# Altium footprint library TIDA-00080_AMC13x6.PcbLib: 26 footprints (part 2 of 2)
Each footprint in its own frame and in the unit in brackets; x right, y up, seen from the top. Pads: shape width x height; smd on the part's side, far side on the other; paste and mask are expansions set on the pad; w line width, h text height; cw(c..) or ccw(c..) is an arc to the next point about the centre after c.
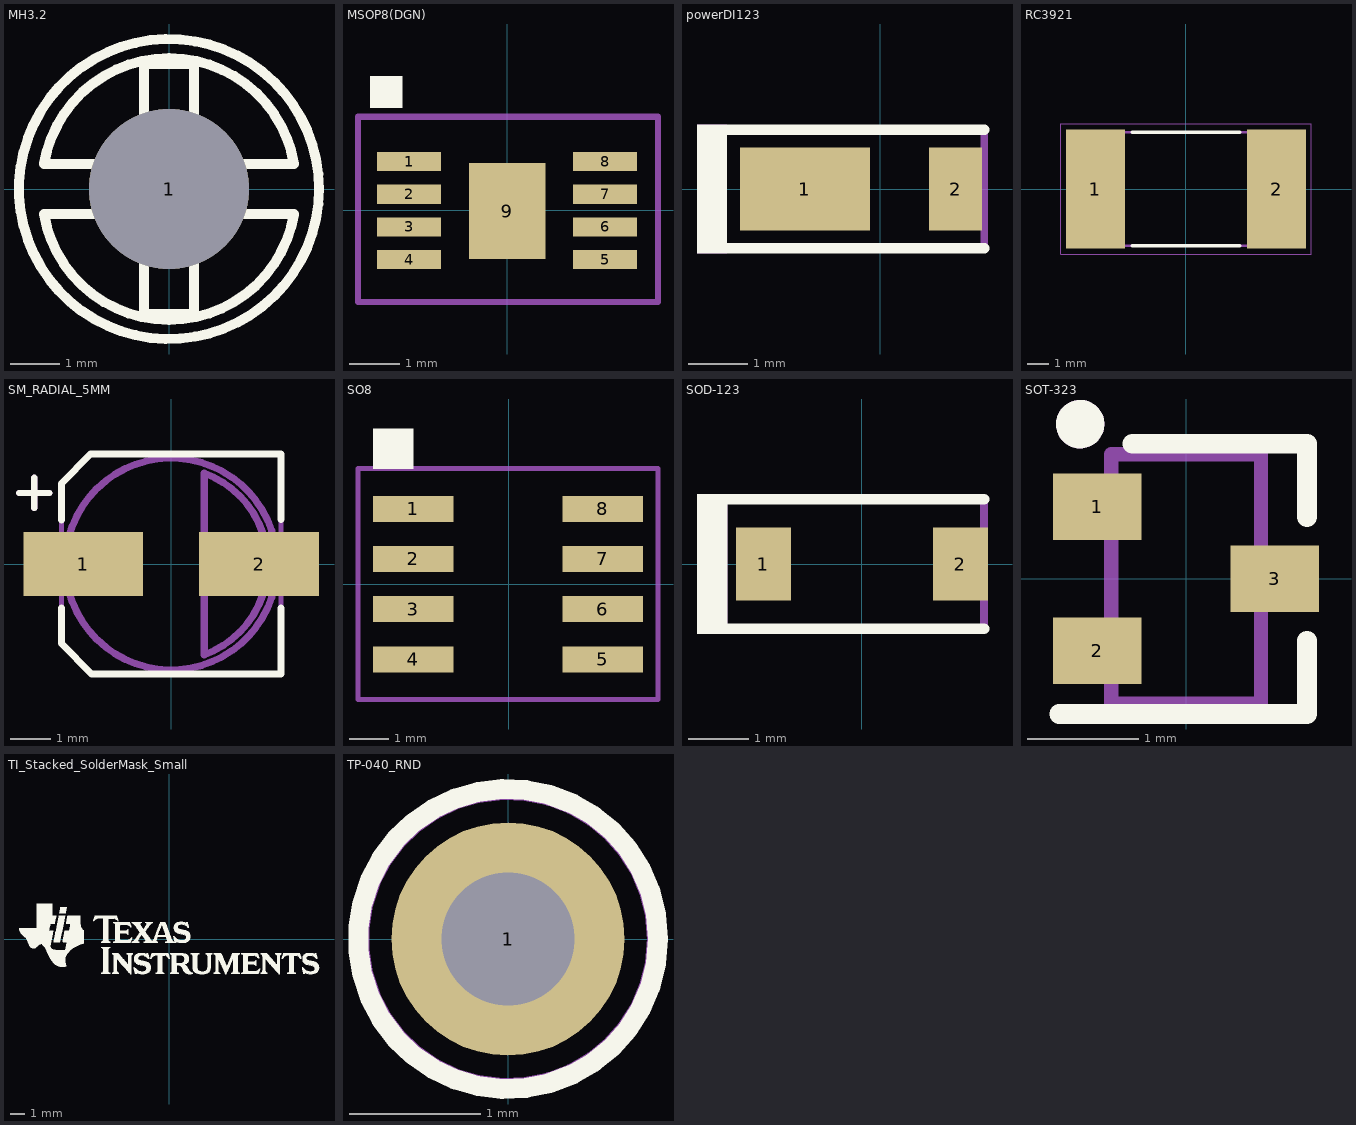
[diagram p1: the footprints below, top view; thin cyan lines are the x and y axes]

## MH3.2 [mil]
height 80
pads (1):
  round 128 / inner round 142 / far side round 128 hole 128 unplated mask+10: 1(0,0)
Top Overlay:
  circle w8: c0,0 r120
  lines w8: -100,-20 -20,-20 -20,-100 20,-100 20,-20 100,-20 ; -100.02,-19.91 ccw(c0,-3.35) 99.99,-20.08 ; -100,20 -20,20 -20,100 20,100 20,20 100,20 ; -99.99,20.09 cw(c0,3.36) 100.02,19.92

## MSOP8(DGN) [mil]
pads (9):
  rect 50x15 smd mask+3: 1(-77,38) 2(-77,12.4) 3(-77,-13.2) 4(-77,-38.8) 5(76.6,-38.8) 6(76.6,-13.2) 7(76.6,12.4) 8(76.6,38)
  rect 60x75 smd: 9(0,-0.8)
Top Overlay:
  region: -107.5,105 -82.5,105 -82.5,80 -107.5,80
Mechanical 5:
  lines w5: -117,-72 -117,73 118,73 118,-72 -117,-72
  text ".Designator" at 15,-20 h25
  text "*" at -105,30 h25

## powerDI123 [mm] "Diodes Inc recommended land pattern, document number DS30628 Rev. 6-2"
height 1
pads (2):
  rect 2.2x1.4 smd: 1(-1.275,0)
  rect 0.9x1.4 smd: 2(1.275,0)
Top Overlay:
  rectangle: -3.099,-1.092 -2.591,1.092
  lines w0.178: -2.946,-1.003 1.759,-1.003 ; -2.946,1.003 1.759,1.003
Mechanical 5:
  rectangle: -3.099,-1.092 -2.591,1.092
  lines w0.127: -2.946,-1.003 1.759,-1.003 1.759,1.003 -2.946,1.003
  text ".Designator" at -0.968,-0.366 h0.64
3D body "PowerDI123.stp": height 1, standoff 0, extent -2.375,-0.965 1.525,0.965

## RC3921 [mm] "RESISTOR, SMD, 3921"
height 0.93
pads (2):
  rect 2.7x5.45 smd mask+0.102: 1(-4.15,0) 2(4.15,0)
Top Overlay:
  lines w0.178: -2.45,-2.6 2.45,-2.6 ; -2.45,2.6 2.45,2.6
Mechanical 5:
  lines w0.127: -5,-2.6 -5,2.6 5,2.6 5,-2.6 -5,-2.6
  text ".Designator" at -0.66,-0.381 h0.64
Mechanical 15:
  lines w0.05: -5.75,-3 5.75,-3 5.75,3 -5.75,3 -5.75,-3
3D body: height 0.93, standoff 0, extent -5,-2.6 5,2.6

## SM_RADIAL_5MM [mm] "Nichicon 5x5.8"
height 6.1
pads (2):
  rect 3x1.6 smd: 1(-2.2,0) 2(2.2,0)
Top Overlay:
  lines w0.152: -3.81,1.778 -3.048,1.778 ; -3.429,1.397 -3.429,2.159
  lines w0.178: -2.75,-1.108 -2.75,-1.992 -1.992,-2.75 2.75,-2.75 2.75,-1.108 ; -2.75,1.108 -2.75,2.019 -2.019,2.75 2.75,2.75 2.75,1.118
Mechanical 5:
  lines w0.127: -2.75,-1.992 -2.75,2.019 -2.019,2.75 2.75,2.75 2.75,-2.75 -1.992,-2.75 -2.75,-1.992
  lines w0.152: -3.81,1.778 -3.048,1.778 ; -3.429,1.397 -3.429,2.159
  text ".Designator" at -0.372,1.111 h0.64
Mechanical 13:
  circle w0.178: c0,0 r2.65
  lines w0.178: 0.827,-2.273 ccw(c0,0) 0.827,2.273 0.827,-2.273
3D body: height 1, standoff 0, extent -2.751,-2.751 2.751,2.751
3D body: height 6.1, standoff 1, extent -2.649,-2.649 2.649,2.649
3D body: height 6.1, standoff 6, extent 0.827,-2.274 2.42,2.274

## SO8 [mil]
pads (8):
  rect 80x26 smd: 1(-95,75) 2(-95,25) 3(-95,-25) 4(-95,-75) 5(94,-75) 6(94,-25) 7(94,25) 8(94,75)
Top Overlay:
  region: -95,115 -95,155 -135,155 -135,115
Mechanical 5:
  lines w5: -150,-115 -150,115 149,115 149,-115 -150,-115
  text "*" at -55.9,51.4 h25
  text ".Designator" at -28.61,-6.81 h25

## SOD-123 [mm] "On Semi recommended land pattern"
height 1.35
pads (2):
  rect 0.915x1.22 smd: 1(-1.637,0) 2(1.637,0)
Top Overlay:
  rectangle: -2.743,-1.168 -2.235,1.168
  lines w0.178: -2.413,-1.079 2.032,-1.079 ; -2.413,1.079 2.032,1.079
Mechanical 5:
  rectangle: -2.743,-1.168 -2.235,1.168
  lines w0.127: -2.413,-1.079 2.032,-1.079 2.032,1.079 -2.413,1.079
  text ".Designator" at 0.762,0.381 h0.64
3D body "SOD-123.stp": height 1.35, standoff 0, extent -1.932,-0.9 1.932,0.9

## SOT-323 [mm] "Zetex recommended land pattern.  March 2007"
height 1.1
pads (3):
  rect 0.8x0.6 smd: 1(-0.8,0.65) 2(-0.8,-0.65) 3(0.8,0)
Top Overlay:
  circle w0.254: c-0.955,1.397 r0.092
  lines w0.178: -1.143,-1.219 1.092,-1.219 1.092,-0.559 ; -0.483,1.219 1.092,1.219 1.092,0.559
Mechanical 5:
  circle w0.254: c-0.955,1.397 r0.092
  lines w0.127: -1.125,-0.8 -1.125,-0.5 -0.975,-0.5 -0.935,-0.5 -0.884,-0.5 -0.725,-0.5 -0.675,-0.5 -0.675,-0.8 -0.725,-0.8 -0.884,-0.8 -0.935,-0.8 -0.975,-0.8 -1.125,-0.8 ; -1.125,0.5 -1.125,0.8 -0.975,0.8 -0.935,0.8 -0.884,0.8 -0.725,0.8 -0.675,0.8 -0.675,0.5 -0.725,0.5 -0.884,0.5 -0.935,0.5 -0.975,0.5 -1.125,0.5 ; -0.675,-1.125 -0.675,1.125 0.675,1.125 0.675,-1.125 -0.675,-1.125 ; 0.675,-0.15 0.725,-0.15 0.884,-0.15 0.935,-0.15 0.975,-0.15 1.125,-0.15 1.125,0.15 0.975,0.15 0.935,0.15 0.884,0.15 0.725,0.15 0.675,0.15 0.675,-0.15
  text ".Designator" at 0.364,-0.912 h0.64
3D body "SC-70.stp": height 1.13, standoff 0.02, extent -1.125,-1.125 1.125,1.125

## TI_Stacked_SolderMask_Small [mil]
pads (1):
  rect 0x0 on Top Overlay paste-125 mask-125: 0(0,0)
Top Overlay:
  drawing of 18 lines, arcs and shapes, not listed

## TP-040_RND [mil]
pads (1):
  round 70 / inner round 62 / far side round 62 hole 40: 1(0,0)
Top Overlay:
  circle w6: c0,0 r45
Mechanical 5:
  circle w6: c0,0 r44.72
  text ".Designator" at -33,-81 h25